# Altium footprint library Inductors.PcbLib: 4 footprints
Each footprint in its own frame and in the unit in brackets; x right, y up, seen from the top. Pads: shape width x height; smd on the part's side, far side on the other; paste and mask are expansions set on the pad; w line width, h text height; cw(c..) or ccw(c..) is an arc to the next point about the centre after c.
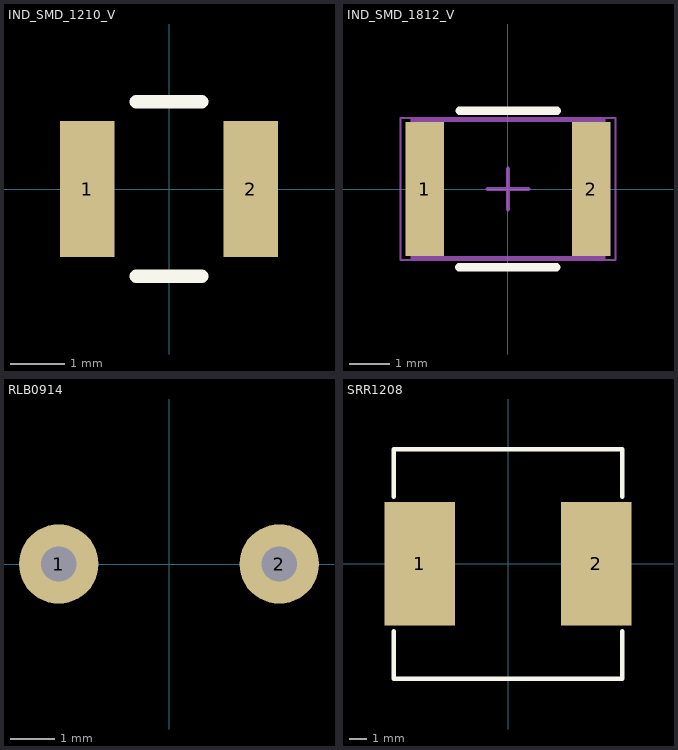
[diagram p0: the footprints below, top view; thin cyan lines are the x and y axes]

## IND_SMD_1210_V [mm] "SMT Inductor, 2 Leads, Body 3.2x2.5mm"
pads (2):
  rect 1x2.5 smd: 1(-1.5,0) 2(1.5,0)
Top Overlay:
  lines w0.254: -0.6,-1.6 0.6,-1.6 ; -0.6,1.6 0.6,1.6
3D body "Ind_SMD_1210.step": height 2, standoff 0, extent -1.601,-1.355 1.601,1.355

## IND_SMD_1812_V [mm]
height 5
pads (2):
  rect 0.95x3.3 smd: 1(-2.05,0) 2(2.05,0)
Top Overlay:
  lines w0.2: -1.206,-1.93 1.194,-1.93 ; -1.194,1.93 1.206,1.93
Mechanical 13:
  lines w0.1: -2.35,-1.7 2.35,-1.7 2.35,1.7 -2.35,1.7 -2.35,-1.7
Mechanical 15:
  lines w0.05: -2.65,-1.75 2.65,-1.75 2.65,1.75 -2.65,1.75 -2.65,-1.75
  lines w0.1: -0.5,0 0.5,0 ; 0,-0.5 0,0.5
3D body "Ind_SMD_1812.STEP": height 2.6, standoff 0, extent -2.3,-1.6 2.3,1.6

## RLB0914 [mm]
height 13
pads (2):
  round 1.8 hole 0.8: 1(-2.5,0) 2(2.5,0)
3D body "RLB_0914.step": height 12, standoff -25, extent -4.35,-4.35 4.35,4.35

## SRR1208 [mm]
height 9
pads (2):
  rect 4x7 smd: 1(-5,0) 2(5,0)
Top Overlay:
  lines w0.254: -6.477,-3.81 -6.477,-6.502 6.477,-6.502 6.477,-3.835 ; -6.477,3.81 -6.477,6.477 6.477,6.477 6.477,3.785
3D body "SRR1208.step": height 8.5, standoff 0.01, extent -6.35,-6.35 6.35,6.35